# Altium schematic symbol library TPA6138A2.SchLib: 1 symbol
Pins are listed as number, name and electrical type; pins without a type are passive.

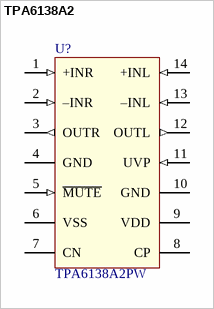
[diagram p0: symbol TPA6138A2]

## TPA6138A2
designator U?, comment TPA6138A2PW
DirectPath™ Headphone Driver With Adjustable Gain; value: TPA6138A2PW
footprint TSSOP-14 (Shrink Small Outline; 14 Leads; Body Width 4.4 mm; Pitch 0.65 mm)
pins: 1 +INR (in), 2 –INR (in), 3 OUTR (out), 4 GND (power), 5 ~{MUTE} (in), 6 VSS (power), 7 CN, 8 CP, 9 VDD, 10 GND (power), 11 UVP (in), 12 OUTL (out), 13 –INL (in), 14 +INL (in)